# EAGLE library part TF-1016DG (library misc)
-18 -1.1 1:1 350 0.9 28 Plugin RJ45 Transformer ROHS
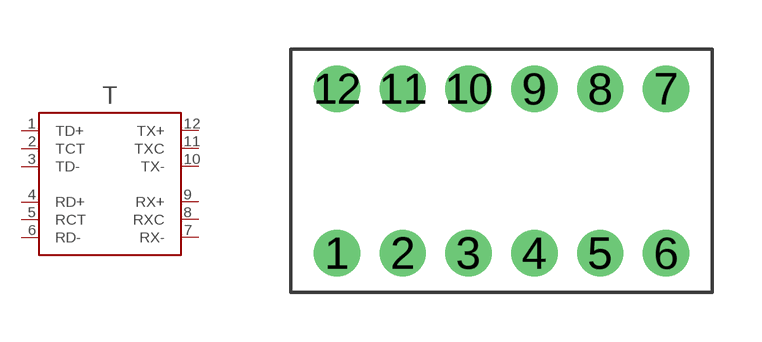
[diagram p35: symbol with the pads of TF-1016DG; footprint TF-1016DG]

Designator prefix T

## TF-1016DG (LCSC#: C408871; MANF: CND-tek; MANF#: TF-1016DG)  [TF-1016DG]
1  TD+
2  TCT
3  TD-
4  RD+
5  RCT
6  RD-
7  RX-
8  RXC
9  RX+
10  TX-
11  TXC
12  TX+

## Footprint TF-1016DG (pad centres in mm)
drill 0.9: 1 -5,-2.5; 2 -3,-2.5; 3 -1,-2.5; 4 1,-2.5; 5 3,-2.5; 6 5,-2.5; 7 5,2.5; 8 3,2.5; 9 1,2.5; 10 -1,2.5; 11 -3,2.5; 12 -5,2.5